# EAGLE library part BUSMASTER (library hgg)
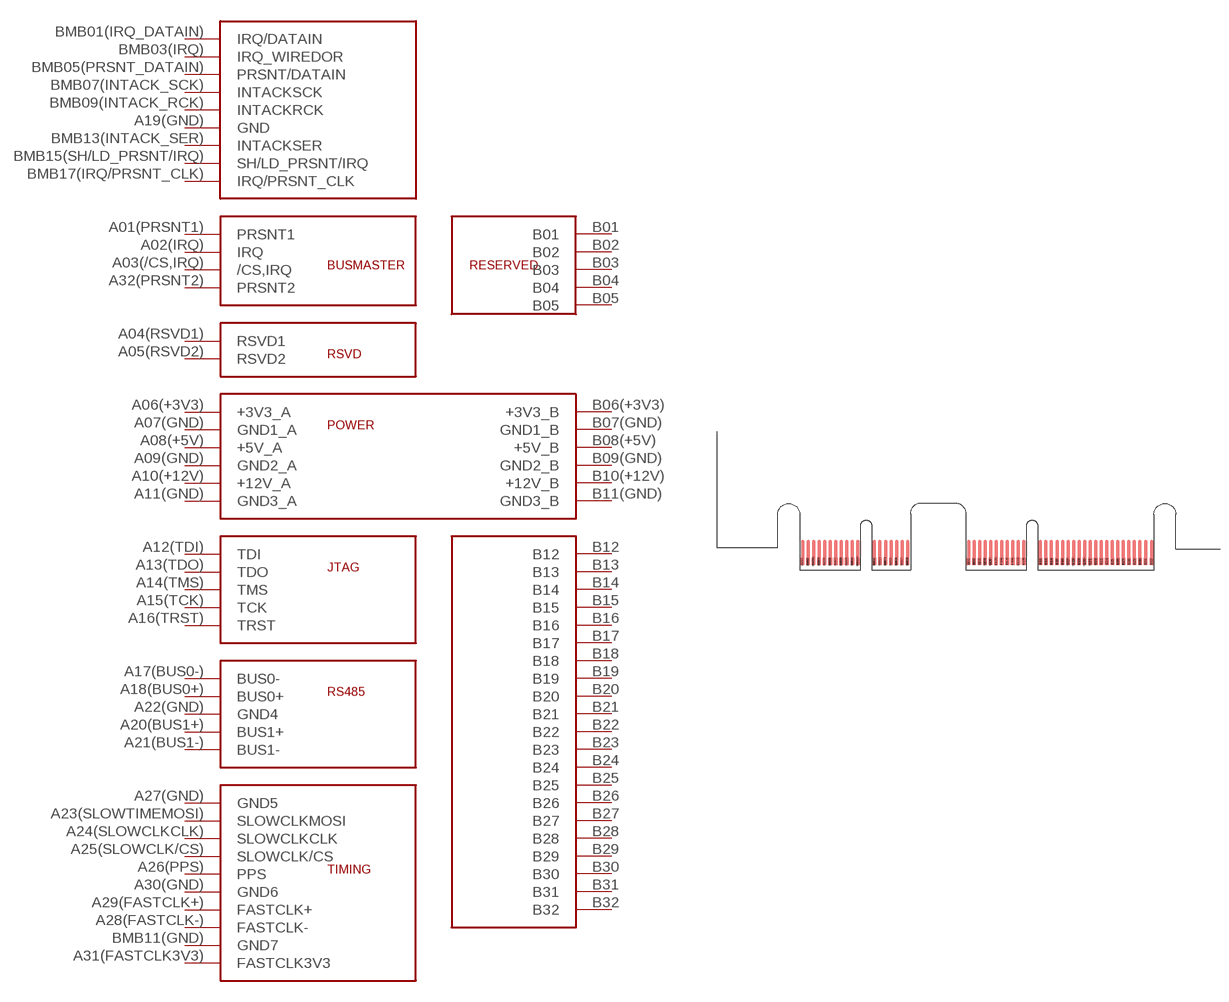
[diagram p3: symbol with the pads of BUSMASTER_EDGE_CONNECTOR; footprint BUSMASTER_EDGE_CONNECTOR]

Designator prefix -

## BUSMASTER  [BUSMASTER_EDGE_CONNECTOR]
A01(PRSNT1)  PRSNT1
A02(IRQ)  IRQ
A03(/CS,IRQ)  /CS,IRQ
A04(RSVD1)  RSVD1
A05(RSVD2)  RSVD2
A06(+3V3)  +3V3_A
A07(GND)  GND1_A
A08(+5V)  +5V_A
A09(GND)  GND2_A
A10(+12V)  +12V_A
A11(GND)  GND3_A
A12(TDI)  TDI
A13(TDO)  TDO
A14(TMS)  TMS
A15(TCK)  TCK
A16(TRST)  TRST
A17(BUS0-)  BUS0-
A18(BUS0+)  BUS0+
A19(GND)  GND
A20(BUS1+)  BUS1+
A21(BUS1-)  BUS1-
A22(GND)  GND4
A23(SLOWTIMEMOSI)  SLOWCLKMOSI
A24(SLOWCLKCLK)  SLOWCLKCLK
A25(SLOWCLK/CS)  SLOWCLK/CS
A26(PPS)  PPS
A27(GND)  GND5
A28(FASTCLK-)  FASTCLK-
A29(FASTCLK+)  FASTCLK+
A30(GND)  GND6
A31(FASTCLK3V3)  FASTCLK3V3
A32(PRSNT2)  PRSNT2
B01  B01
B02  B02
B03  B03
B04  B04
B05  B05
B06(+3V3)  +3V3_B
B07(GND)  GND1_B
B08(+5V)  +5V_B
B09(GND)  GND2_B
B10(+12V)  +12V_B
B11(GND)  GND3_B
B12  B12
B13  B13
B14  B14
B15  B15
B16  B16
B17  B17
B18  B18
B19  B19
B20  B20
B21  B21
B22  B22
B23  B23
B24  B24
B25  B25
B26  B26
B27  B27
B28  B28
B29  B29
B30  B30
B31  B31
B32  B32
BMB01(IRQ_DATAIN)  IRQ/DATAIN
BMB03(IRQ)  IRQ_WIREDOR
BMB05(PRSNT_DATAIN)  PRSNT/DATAIN
BMB07(INTACK_SCK)  INTACKSCK
BMB09(INTACK_RCK)  INTACKRCK
BMB11(GND)  GND7
BMB13(INTACK_SER)  INTACKSER
BMB15(SH/LD_PRSNT/IRQ)  SH/LD_PRSNT/IRQ
BMB17(IRQ/PRSNT_CLK)  IRQ/PRSNT_CLK

## Footprint BUSMASTER_EDGE_CONNECTOR (pad centres in mm)
smd 0.66 x 1.27 bottom: A01(PRSNT1) 45.5,-14.5; A02(IRQ) 46.5,-14.5; A03(/CS,IRQ) 47.5,-14.5; A04(RSVD1) 48.5,-14.5; A05(RSVD2) 49.5,-14.5; A06(+3V3) 50.5,-14.5; A07(GND) 51.5,-14.5; A08(+5V) 52.5,-14.5; A09(GND) 53.5,-14.5; A10(+12V) 54.5,-14.5; A11(GND) 55.5,-14.5; A12(TDI) 58.5,-14.5; A13(TDO) 59.5,-14.5; A14(TMS) 60.5,-14.5; A15(TCK) 61.5,-14.5; A16(TRST) 62.5,-14.5; A17(BUS0-) 63.5,-14.5; A18(BUS0+) 64.5,-14.5; A19(GND) 65.5,-14.5; A20(BUS1+) 66.5,-14.5; A21(BUS1-) 67.5,-14.5; A22(GND) 68.5,-14.5; A23(SLOWTIMEMOSI) 69.5,-14.5; A24(SLOWCLKCLK) 70.5,-14.5; A25(SLOWCLK/CS) 71.5,-14.5; A26(PPS) 72.5,-14.5; A27(GND) 73.5,-14.5; A28(FASTCLK-) 74.5,-14.5; A29(FASTCLK+) 75.5,-14.5; A30(GND) 76.5,-14.5; A31(FASTCLK3V3) 77.5,-14.5; A32(PRSNT2) 78.6,-14.5; BMB01(IRQ_DATAIN) 15.5,-14.5; BMB02 16.5,-14.5; BMB03(IRQ) 17.5,-14.5; BMB04 18.5,-14.5; BMB05(PRSNT_DATAIN) 19.5,-14.5; BMB06 20.5,-14.5; BMB07(INTACK_SCK) 21.5,-14.5; BMB08 22.5,-14.5; BMB09(INTACK_RCK) 23.5,-14.5; BMB10 24.5,-14.5; BMB11(GND) 25.5,-14.5; BMB12 28.5,-14.5; BMB13(INTACK_SER) 29.5,-14.5; BMB14 30.5,-14.5; BMB15(SH/LD_PRSNT/IRQ) 31.5,-14.5; BMB16 32.5,-14.5; BMB17(IRQ/PRSNT_CLK) 33.5,-14.5; BMB18 34.5,-14.5
smd 0.66 x 1.27: B01 45.5,-14.5; B02 46.5,-14.5; B03 47.5,-14.5; B04 48.5,-14.5; B05 49.5,-14.5; B06(+3V3) 50.5,-14.5; B07(GND) 51.5,-14.5; B08(+5V) 52.5,-14.5; B09(GND) 53.5,-14.5; B10(+12V) 54.5,-14.5; B11(GND) 55.5,-14.5; B12 58.5,-14.5; B13 59.5,-14.5; B14 60.5,-14.5; B15 61.5,-14.5; B16 62.5,-14.5; B17 63.5,-14.5; B18 64.5,-14.5; B19 65.5,-14.5; B20 66.5,-14.5; B21 67.5,-14.5; B22 68.5,-14.5; B23 69.5,-14.5; B24 70.5,-14.5; B25 71.5,-14.5; B26 72.5,-14.5; B27 73.5,-14.5; B28 74.5,-14.5; B29 75.5,-14.5; B30 76.5,-14.5; B31 77.5,-14.5; B32 78.6,-14.5; BMA01 15.5,-14.5; BMA02 16.5,-14.5; BMA03 17.5,-14.5; BMA04 18.5,-14.5; BMA05 19.5,-14.5; BMA06 20.5,-14.5; BMA07 21.5,-14.5; BMA08 22.5,-14.5; BMA09 23.5,-14.5; BMA10 24.5,-14.5; BMA11 25.5,-14.5; BMA12 28.5,-14.5; BMA13 29.5,-14.5; BMA14 30.5,-14.5; BMA15 31.5,-14.5; BMA16 32.5,-14.5; BMA17 33.5,-14.5; BMA18 34.5,-14.5